# Altium footprint library Package_LGA.PcbLib: 37 footprints (part 3 of 3)
Each footprint in its own frame and in the unit in brackets; x right, y up, seen from the top. Pads: shape width x height; smd on the part's side, far side on the other; paste and mask are expansions set on the pad; w line width, h text height; cw(c..) or ccw(c..) is an arc to the next point about the centre after c.
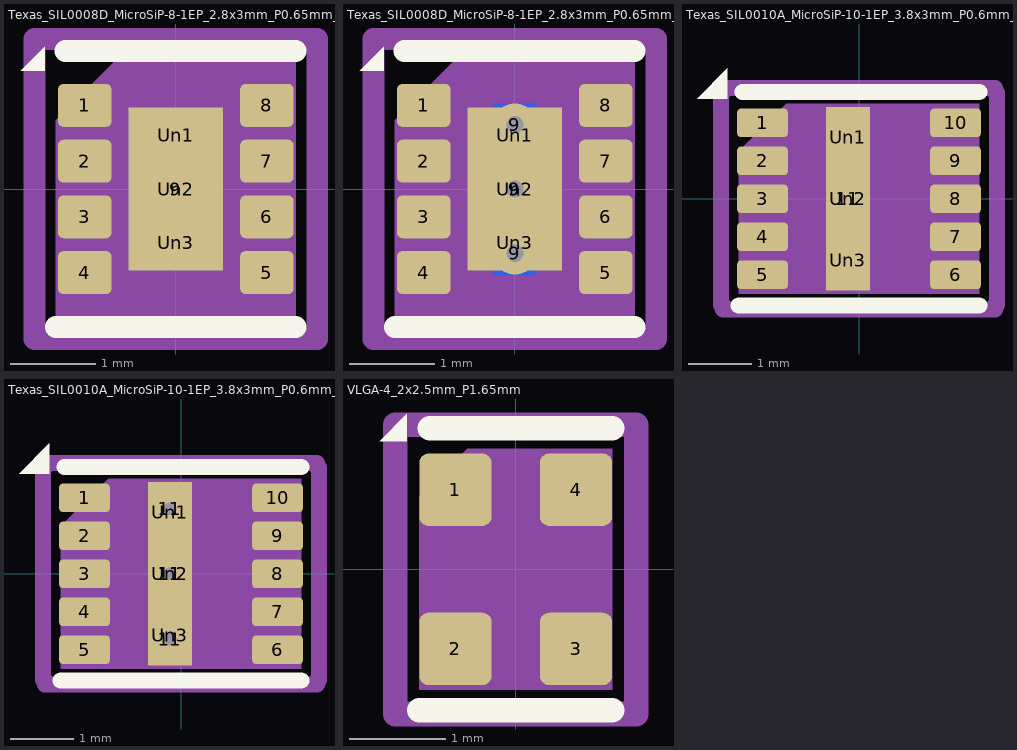
[diagram p2: the footprints below, top view; thin cyan lines are the x and y axes]

## Texas_SIL0008D_MicroSiP-8-1EP_2.8x3mm_P0.65mm_EP1.1x1.9mm [mm]
pads (12):
  rrect25% 0.625x0.5 smd: 1(-1.062,0.975) 2(-1.062,0.325) 3(-1.062,-0.325) 4(-1.062,-0.975) 5(1.062,-0.975) 6(1.062,-0.325) 7(1.062,0.325) 8(1.062,0.975)
  rect 1.1x1.9 smd: 9(0,0)
  rrect25% 0.89x0.51 on Top Paste: Un1(0,0.63) Un2(0,0) Un3(0,-0.63)
F.SilkS:
  region: -1.53,1.38 -1.81,1.38 -1.53,1.66
  lines w0.254: -1.4,-1.61 1.4,-1.61 ; -1.29,1.61 1.4,1.61
Top Assembly:
  region: 1.4,-1.5 -1.4,-1.5 -1.4,0.8 -0.7,1.5 1.4,1.5
  text "'.Designator'" at 0.628,-3.033 h0.75
Top Courtyard:
  lines w0.254: -1.65,-1.75 1.65,-1.75 1.65,1.75 -1.65,1.75 -1.65,-1.75
Top Designator:
  text ".Designator" at -7.634,-0.618 h1.52

## Texas_SIL0008D_MicroSiP-8-1EP_2.8x3mm_P0.65mm_EP1.1x1.9mm_ThermalVias [mm]
pads (16):
  rrect25% 0.625x0.5 smd: 1(-1.062,0.975) 2(-1.062,0.325) 3(-1.062,-0.325) 4(-1.062,-0.975) 5(1.062,-0.975) 6(1.062,-0.325) 7(1.062,0.325) 8(1.062,0.975)
  round 0.5 hole 0.2: 9(0,-0.75) 9(0,0) 9(0,0.75)
  rect 1.1x1.9 smd: 9(0,0)
  rect 0.5x2 smd far side: 9(0,0)
  rrect25% 0.95x0.55 on Top Paste: Un1(0,0.63) Un2(0,0) Un3(0,-0.63)
F.SilkS:
  region: -1.53,1.38 -1.81,1.38 -1.53,1.66
  lines w0.254: -1.4,-1.61 1.4,-1.61 ; -1.29,1.61 1.4,1.61
Top Assembly:
  region: 1.4,-1.5 -1.4,-1.5 -1.4,0.8 -0.7,1.5 1.4,1.5
  text "'.Designator'" at 0.628,-3.033 h0.75
Top Courtyard:
  lines w0.254: -1.65,-1.75 1.65,-1.75 1.65,1.75 -1.65,1.75 -1.65,-1.75
Top Designator:
  text ".Designator" at -7.634,-0.618 h1.52

## Texas_SIL0010A_MicroSiP-10-1EP_3.8x3mm_P0.6mm_EP0.7x2.9mm [mm]
pads (14):
  rrect25% 0.8x0.45 smd: 1(-1.525,1.2) 2(-1.525,0.6) 3(-1.525,0) 4(-1.525,-0.6) 5(-1.525,-1.2) 6(1.525,-1.2) 7(1.525,-0.6) 8(1.525,0) 9(1.525,0.6) 10(1.525,1.2)
  rect 0.7x2.9 smd: 11(-0.175,0)
  rrect25% 0.56x0.78 on Top Paste: Un1(-0.175,0.97) Un2(-0.175,0) Un3(-0.175,-0.97)
F.SilkS:
  region: -2.08,1.58 -2.56,1.58 -2.08,2.06
  lines w0.254: -1.9,-1.685 1.9,-1.685 ; -1.84,1.685 1.9,1.685
Top Assembly:
  region: 1.9,-1.5 -1.9,-1.5 -1.9,0.75 -1.15,1.5 1.9,1.5
  text "'.Designator'" at -3.842,-0.796 h0.95
Top Courtyard:
  lines w0.254: -2.18,-1.68 -2.18,1.68 -2.15,1.68 -2.15,1.75 2.15,1.75 2.15,1.68 2.18,1.68 2.18,-1.68 2.15,-1.68 2.15,-1.75 -2.15,-1.75 -2.15,-1.68 -2.18,-1.68
Top Designator:
  text ".Designator" at -7.758,-0.416 h1.52

## Texas_SIL0010A_MicroSiP-10-1EP_3.8x3mm_P0.6mm_EP0.7x2.9mm_ThermalVias [mm]
pads (18):
  rrect25% 0.8x0.45 smd: 1(-1.525,1.2) 2(-1.525,0.6) 3(-1.525,0) 4(-1.525,-0.6) 5(-1.525,-1.2) 6(1.525,-1.2) 7(1.525,-0.6) 8(1.525,0) 9(1.525,0.6) 10(1.525,1.2)
  round 0.5 hole 0.2: 11(-0.175,-1.03) 11(-0.175,0) 11(-0.175,1.03)
  rect 0.7x2.9 smd: 11(-0.175,0)
  rect 0.5x2.56 smd far side: 11(-0.175,0)
  rrect25% 0.65x0.9 on Top Paste: Un1(-0.175,0.97) Un2(-0.175,0) Un3(-0.175,-0.97)
F.SilkS:
  region: -2.08,1.58 -2.56,1.58 -2.08,2.06
  lines w0.254: -1.9,-1.685 1.9,-1.685 ; -1.84,1.685 1.9,1.685
Top Assembly:
  region: 1.9,-1.5 -1.9,-1.5 -1.9,0.75 -1.15,1.5 1.9,1.5
  text "'.Designator'" at -3.842,-0.796 h0.95
Top Courtyard:
  lines w0.254: -2.18,-1.68 -2.15,-1.68 -2.15,-1.75 2.15,-1.75 2.15,-1.68 2.18,-1.68 2.18,1.68 2.15,1.68 2.15,1.75 -2.15,1.75 -2.15,1.68 -2.18,1.68 -2.18,-1.68
Top Designator:
  text ".Designator" at -7.758,-0.416 h1.52

## VLGA-4_2x2.5mm_P1.65mm [mm]
pads (4):
  rrect25% 0.75x0.75 smd: 1(-0.625,0.825) 2(-0.625,-0.825) 3(0.625,-0.825) 4(0.625,0.825)
F.SilkS:
  region: -1.13,1.33 -1.41,1.33 -1.13,1.61
  lines w0.254: -1,-1.46 1,-1.46 ; -0.89,1.46 1,1.46
Top Assembly:
  region: 1,-1.25 -1,-1.25 -1,0.75 -0.5,1.25 1,1.25
  text "'.Designator'" at 0.518,-2.506 h0.62
Top Courtyard:
  lines w0.254: -1.25,-1.5 1.25,-1.5 1.25,1.5 -1.25,1.5 -1.25,-1.5
Top Designator:
  text ".Designator" at -7.634,-0.598 h1.52